# Altium schematic symbol library Diode_Wurth_Electronics_150080SS75000_eec.SchLib: 1 symbol
Pins are listed as number, name and electrical type; pins without a type are passive.

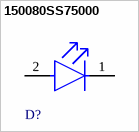
[diagram p0: symbol 150080SS75000]

## 150080SS75000
designator D?  (value not drawn)
pins: 1 C, 2 A